# EAGLE library part SM10B-SRSS-TB (library con-JST-SH)
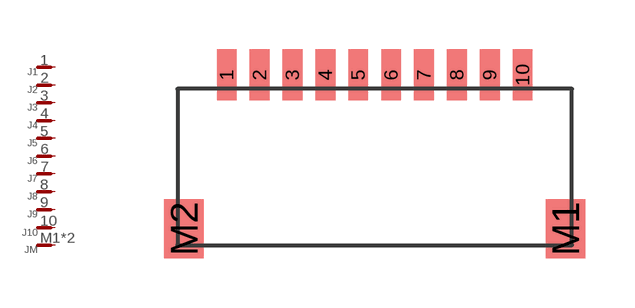
[diagram p1: symbol with the pads of SM10B-SRSS-TB; footprint SM10B-SRSS-TB]

Designator prefix J; gates 1=PIN 2=PIN 3=PIN 4=PIN 5=PIN 6=PIN 7=PIN 8=PIN 9=PIN 10=PIN M=PIN

## SM10B-SRSS-TB  [SM10B-SRSS-TB]
1  1:P
2  2:P
3  3:P
4  4:P
5  5:P
6  6:P
7  7:P
8  8:P
9  9:P
10  10:P
M1  M:P
M2  M:P

## Footprint SM10B-SRSS-TB (pad centres in mm)
JST-SH (1.25mm) 10-pin surface-mount right-angle Wire-Board Connector
smd 0.6 x 1.55: 1 -4.5,4.675; 2 -3.5,4.675; 3 -2.5,4.675; 4 -1.5,4.675; 5 -0.5,4.675; 6 0.5,4.675; 7 1.5,4.675; 8 2.5,4.675; 9 3.5,4.675; 10 4.5,4.675
smd 1.2 x 1.8: M1 5.8,0; M2 -5.8,0